# Altium schematic symbol library OSCILLATOR_LIB.SchLib: 1 symbol
Pins are listed as number, name and electrical type; pins without a type are passive.

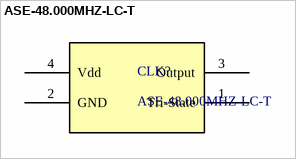
[diagram p0: symbol ASE-48.000MHZ-LC-T]

## ASE-48.000MHZ-LC-T
designator CLK?
OSC XO 48.000MHZ CMOS SMD
footprint ASE-48.000MHZ-LC-T (OSC XO 48.000MHZ CMOS SMD)
pins: 1 Tri-State, 2 GND, 3 Output, 4 Vdd